# EAGLE library part LM3886 (library ICs)
LM3886 Overture™ Audio Power Amplifier Series High-Performance 68W Audio Power Amplifier w/Mute
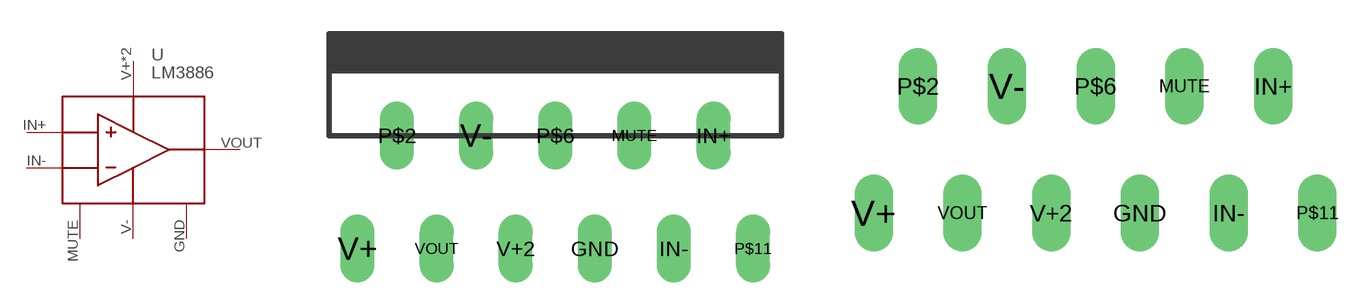
[diagram p1: symbol with the pads of TO220-11; footprints TO220-11, TO220-11FLAT]

Designator prefix U

## LM3886T-VERT (DIGIKEY: LM3886TF/NOPB-ND; HEIGHT: 22; PRICE_PER: 5.59; VALUE: LM3886T)  [TO220-11]
GND  GND
IN+  IN+
IN-  IN-
MUTE  MUTE
V+  V+
V+2  V+
V-  V-
VOUT  VOUT

## LM3886T-FLAT (DIGIKEY: LM3886TF/NOPB-ND; HEIGHT: 1; PRICE_PER: 5.59; VALUE: LM3886T)  [TO220-11FLAT]
Pads as for TO220-11

## LM3886TF-VERT (DIGIKEY: 296-43511-5-ND; HEIGHT: 21; PRICE_PER: 6.71; VALUE: LM3886TF)  [TO220-11]
Pads as for TO220-11

## LM3886TF-FLAT (DIGIKEY: 296-43511-5-ND; HEIGHT: 1; PRICE_PER: 6.71; VALUE: LM3886TF)  [TO220-11FLAT]
Pads as for TO220-11

## Footprint TO220-11 (pad centres in mm)
drill 1 long: GND 1.75,-5; IN+ 7,0; IN- 5.25,-5; MUTE 3.5,0; P$2 -7,0; P$6 0,0; P$11 8.75,-5; V+ -8.75,-5; V+2 -1.75,-5; V- -3.5,0; VOUT -5.25,-5

## Footprint TO220-11FLAT (pad centres in mm)
drill 1 long: GND 1.75,-5; IN+ 7,0; IN- 5.25,-5; MUTE 3.5,0; P$2 -7,0; P$6 0,0; P$11 8.75,-5; V+ -8.75,-5; V+2 -1.75,-5; V- -3.5,0; VOUT -5.25,-5